# Altium integrated library TI Power Management Linear Regulator Dual Channel LDO.IntLib: 299 symbols (part 7 of 15)
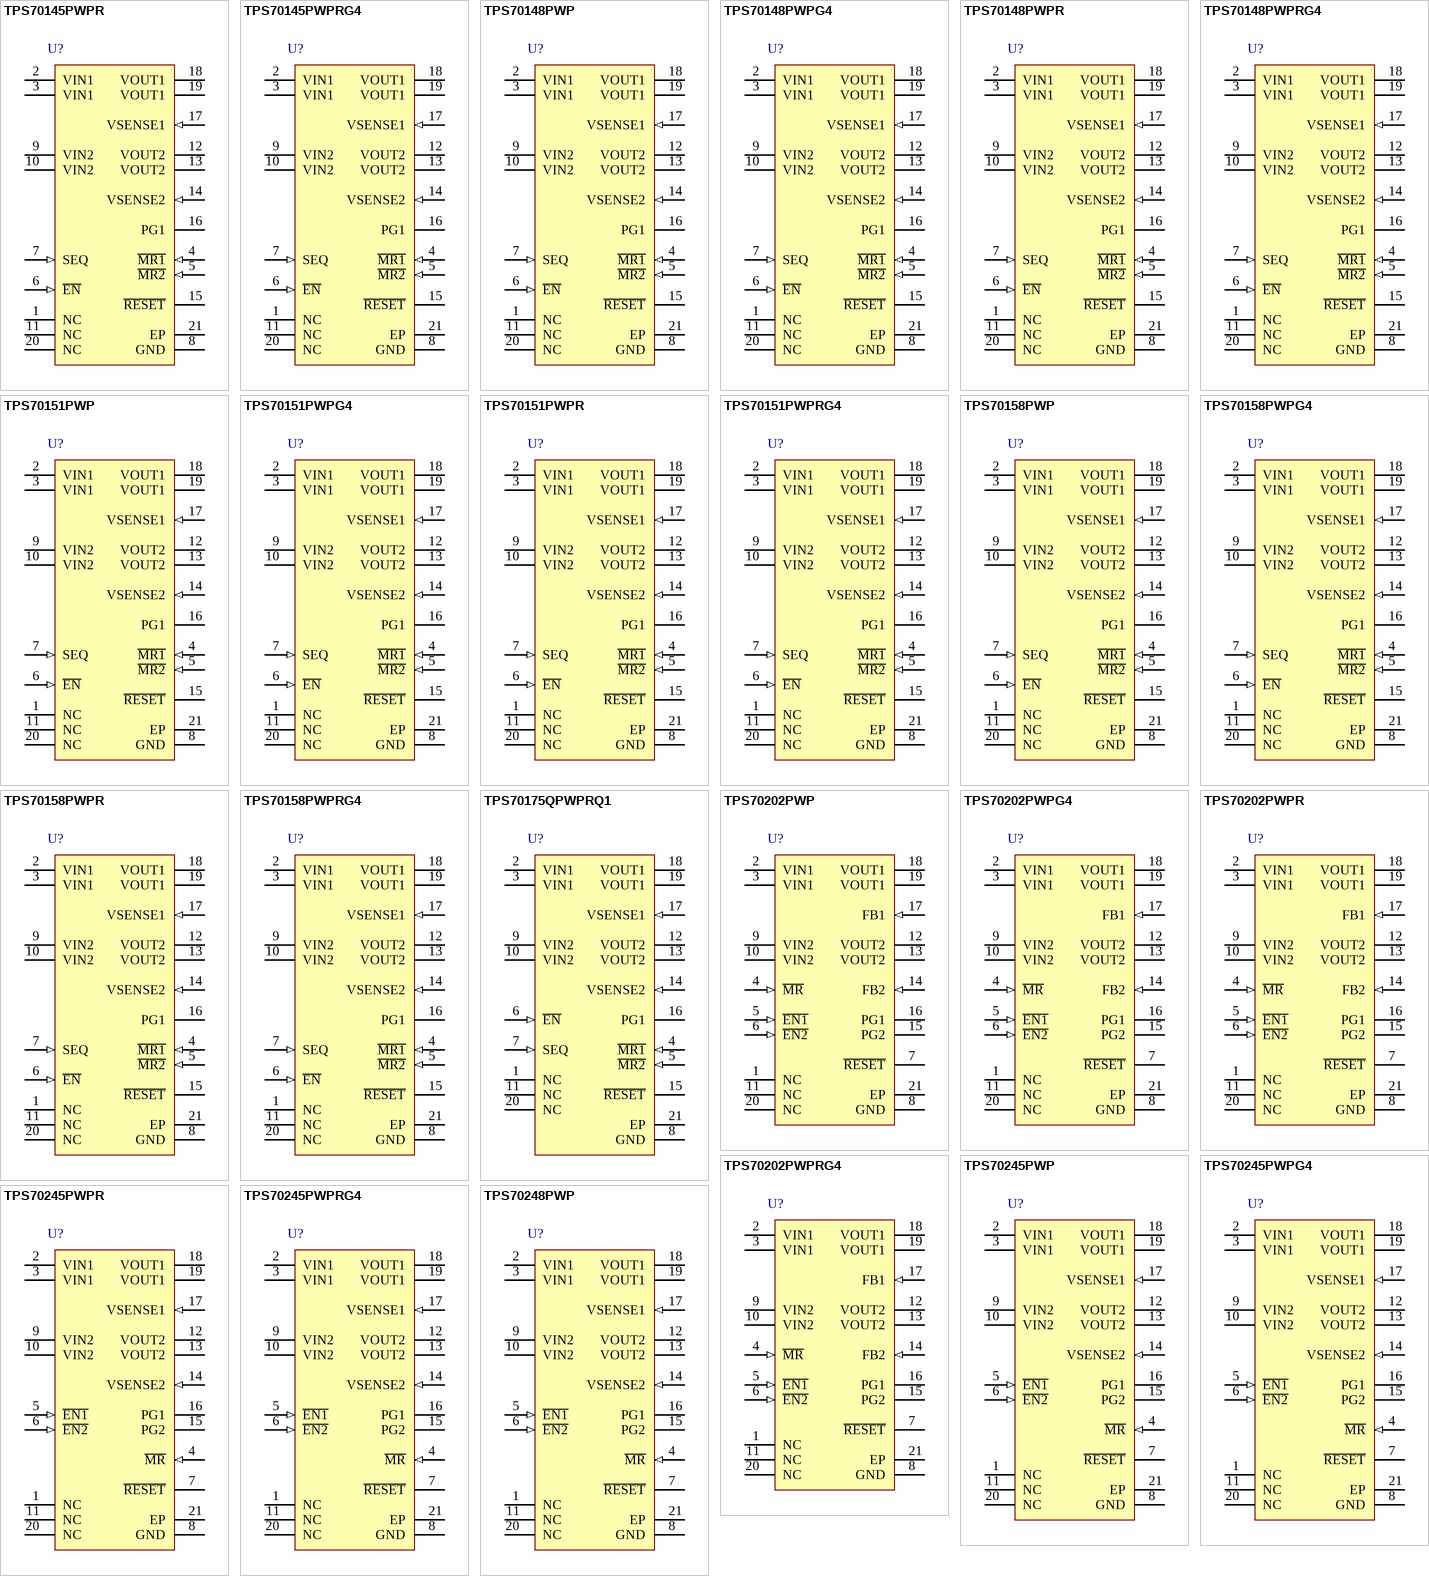
[diagram p17: symbols TPS70145PWPR to TPS70248PWP]

## TPS70245PWPRG4
designator U?
Dual Output LDO, 500 mA, Fixed 3.3, 1.2 V Output, 2.7 to 6 V Input, 20-pin HTSSOP (PWP), -40 to 125 degC, Green (RoHS & no Sb/Br); Manufacturer: Texas Instruments; PartNumber: TPS70245PWPRG4; Iout(Max)(A): 0.5; Iout2(A): 0.2; Iq(Typ)(mA): 0.19; SubFamily: Dual Channel LDO; Vdo(Typ)(mV): 170; Vin(Max)(V): 6; Vin(Min)(V): 2.7; Vout(Max)(V): 3.3; Vout2(Max)(V): 1.2; DatasheetVersion: SLVS286E; PackageVersion: 4073225-4/I; PackageReference: PWP20-3005X2005TP; PackageDescription: 20-Pin Plastic Small Outline, Body 6.50 x 4.40 mm, Pitch 0.65 mm; Supplier 1: Digi-Key; Supplier Part Number 1: TPS70245PWPRG4-ND; Supplier 2: Mouser; Supplier Part Number 2: 595-TPS70245PWPRG4; Eco-Plan: Green (RoHS & no Sb/Br); Fixed Output Options(V): 3.3, 1.2; Vout(Min)(V): 3.3; Vout2(Min)(V): 1.2; Mounting Technology: Surface Mount; Code_JEDEC: MO-153; ComponentLink1Description: Manufacturer URL; ComponentLink1URL: http://www.ti.com/; ComponentLink2Description: Datasheet; ComponentLink2URL: http://www.ti.com/general/docs/lit/getliterature.tsp?genericPartNumber=TPS70245&fileType=pdf; ComponentLink3Description: Package Specification; ComponentLink3URL: http://www.ti.com/lit/ml/mhts001g/mhts001g.pdf
footprint TI-PWP20-3005X2005TP_N (SOP, 20-Leads, Body 6.5x4.4mm, Pitch 0.65mm, Thermal Pad 3.005 x 2.005mm, IPC Medium Density)
footprint TI-PWP20-3005X2005TP_L (SOP, 20-Leads, Body 6.5x4.4mm, Pitch 0.65mm, Thermal Pad 3.005 x 2.005mm, IPC High Density)
footprint TI-PWP20-3005X2005TP_M (SOP, 20-Leads, Body 6.5x4.4mm, Pitch 0.65mm, Thermal Pad 3.005 x 2.005mm, IPC Low Density)
pins: 1 NC "No connection", 2 VIN1 (power) "Input voltage of regulator 1", 3 VIN1 (power) "Input voltage of regulator 1", 4 ~{MR} (in) "Manual reset input, active low, pulled up internally", 5 ~{EN1} (in) "Active low enable for VOUT1", 6 ~{EN2} (in) "Active low enable for VOUT2", 7 ~{RESET} (hiz) "Open drain output, SVS (power-on reset) signal, active low", 8 GND (power) "Ground", 9 VIN2 (power) "Input voltage of regulator 2", 10 VIN2 (power) "Input voltage of regulator 2", 11 NC "No connection", 12 VOUT2 (power) "Output voltage of regulator 2", 13 VOUT2 (power) "Output voltage of regulator 2", 14 VSENSE2 (in) "Regulator 2 output voltage sense", 15 PG2 (hiz) "Open drain output, low when VOUT2 voltage is less than 95% of the nominal regulated voltage", 16 PG1 (hiz) "Open drain output, low when VOUT1 voltage is less than 95% of the nominal regulated voltage", 17 VSENSE1 (in) "Regulator 1 output voltage sense", 18 VOUT1 (power) "Output voltage of regulator 1", 19 VOUT1 (power) "Output voltage of regulator 1", 20 NC "No connection", 21 EP "Thermal pad"

## TPS70248PWP
designator U?
Dual Output LDO, 500 mA, Fixed 3.3, 1.5 V Output, 2.7 to 6 V Input, 20-pin HTSSOP (PWP), -40 to 125 degC, Green (RoHS & no Sb/Br); Manufacturer: Texas Instruments; PartNumber: TPS70248PWP; Iout(Max)(A): 0.5; Iout2(A): 0.2; Iq(Typ)(mA): 0.19; SubFamily: Dual Channel LDO; Vdo(Typ)(mV): 170; Vin(Max)(V): 6; Vin(Min)(V): 2.7; Vout(Max)(V): 3.3; Vout2(Max)(V): 1.5; DatasheetVersion: SLVS286E; PackageVersion: 4073225-4/I; PackageReference: PWP20-3005X2005TP; PackageDescription: 20-Pin Plastic Small Outline, Body 6.50 x 4.40 mm, Pitch 0.65 mm; Supplier 1: Digi-Key; Supplier Part Number 1: 296-8018-5-ND; Supplier 2: Newark; Supplier Part Number 2: 77C0753; Supplier 3: Mouser; Supplier Part Number 3: 595-TPS70248PWP; Eco-Plan: Green (RoHS & no Sb/Br); Fixed Output Options(V): 3.3, 1.5; Vout(Min)(V): 3.3; Vout2(Min)(V): 1.5; Mounting Technology: Surface Mount; Code_JEDEC: MO-153; ComponentLink1Description: Manufacturer URL; ComponentLink1URL: http://www.ti.com/; ComponentLink2Description: Datasheet; ComponentLink2URL: http://www.ti.com/general/docs/lit/getliterature.tsp?genericPartNumber=TPS70248&fileType=pdf; ComponentLink3Description: Package Specification; ComponentLink3URL: http://www.ti.com/lit/ml/mhts001g/mhts001g.pdf
footprint TI-PWP20-3005X2005TP_N (SOP, 20-Leads, Body 6.5x4.4mm, Pitch 0.65mm, Thermal Pad 3.005 x 2.005mm, IPC Medium Density)
footprint TI-PWP20-3005X2005TP_L (SOP, 20-Leads, Body 6.5x4.4mm, Pitch 0.65mm, Thermal Pad 3.005 x 2.005mm, IPC High Density)
footprint TI-PWP20-3005X2005TP_M (SOP, 20-Leads, Body 6.5x4.4mm, Pitch 0.65mm, Thermal Pad 3.005 x 2.005mm, IPC Low Density)
pins: 1 NC "No connection", 2 VIN1 (power) "Input voltage of regulator 1", 3 VIN1 (power) "Input voltage of regulator 1", 4 ~{MR} (in) "Manual reset input, active low, pulled up internally", 5 ~{EN1} (in) "Active low enable for VOUT1", 6 ~{EN2} (in) "Active low enable for VOUT2", 7 ~{RESET} (hiz) "Open drain output, SVS (power-on reset) signal, active low", 8 GND (power) "Ground", 9 VIN2 (power) "Input voltage of regulator 2", 10 VIN2 (power) "Input voltage of regulator 2", 11 NC "No connection", 12 VOUT2 (power) "Output voltage of regulator 2", 13 VOUT2 (power) "Output voltage of regulator 2", 14 VSENSE2 (in) "Regulator 2 output voltage sense", 15 PG2 (hiz) "Open drain output, low when VOUT2 voltage is less than 95% of the nominal regulated voltage", 16 PG1 (hiz) "Open drain output, low when VOUT1 voltage is less than 95% of the nominal regulated voltage", 17 VSENSE1 (in) "Regulator 1 output voltage sense", 18 VOUT1 (power) "Output voltage of regulator 1", 19 VOUT1 (power) "Output voltage of regulator 1", 20 NC "No connection", 21 EP "Thermal pad"

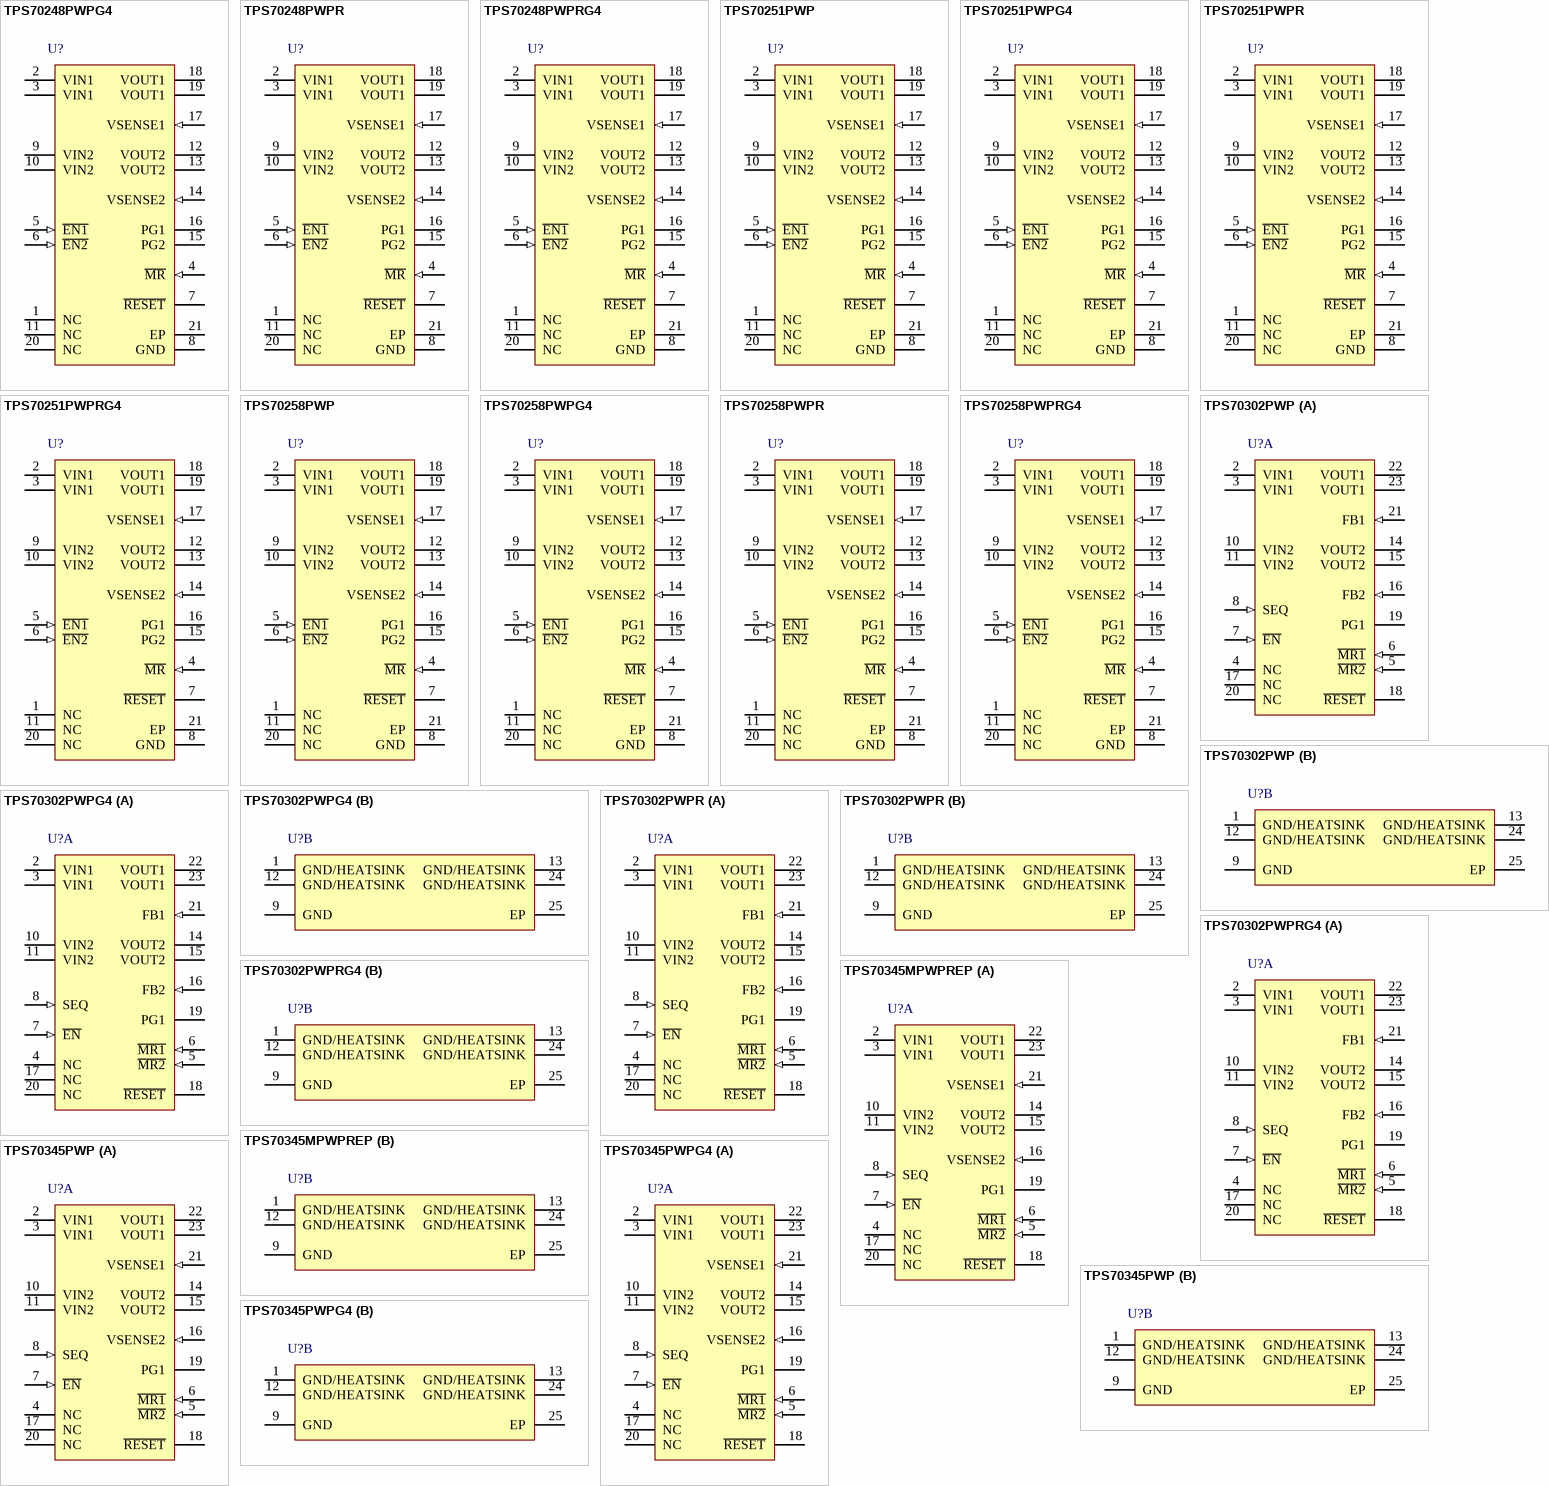
[diagram p5: symbols TPS70248PWPG4 to TPS70345PWPG4]

## TPS70248PWPG4
designator U?
Dual Output LDO, 500 mA, Fixed 3.3, 1.5 V Output, 2.7 to 6 V Input, 20-pin HTSSOP (PWP), -40 to 125 degC, Green (RoHS & no Sb/Br); Manufacturer: Texas Instruments; PartNumber: TPS70248PWPG4; Iout(Max)(A): 0.5; Iout2(A): 0.2; Iq(Typ)(mA): 0.19; SubFamily: Dual Channel LDO; Vdo(Typ)(mV): 170; Vin(Max)(V): 6; Vin(Min)(V): 2.7; Vout(Max)(V): 3.3; Vout2(Max)(V): 1.5; DatasheetVersion: SLVS286E; PackageVersion: 4073225-4/I; PackageReference: PWP20-3005X2005TP; PackageDescription: 20-Pin Plastic Small Outline, Body 6.50 x 4.40 mm, Pitch 0.65 mm; Supplier 1: Digi-Key; Supplier Part Number 1: TPS70248PWPG4-ND; Supplier 2: Mouser; Supplier Part Number 2: 595-TPS70248PWPG4; Eco-Plan: Green (RoHS & no Sb/Br); Fixed Output Options(V): 3.3, 1.5; Vout(Min)(V): 3.3; Vout2(Min)(V): 1.5; Mounting Technology: Surface Mount; Code_JEDEC: MO-153; ComponentLink1Description: Manufacturer URL; ComponentLink1URL: http://www.ti.com/; ComponentLink2Description: Datasheet; ComponentLink2URL: http://www.ti.com/general/docs/lit/getliterature.tsp?genericPartNumber=TPS70248&fileType=pdf; ComponentLink3Description: Package Specification; ComponentLink3URL: http://www.ti.com/lit/ml/mhts001g/mhts001g.pdf
footprint TI-PWP20-3005X2005TP_N (SOP, 20-Leads, Body 6.5x4.4mm, Pitch 0.65mm, Thermal Pad 3.005 x 2.005mm, IPC Medium Density)
footprint TI-PWP20-3005X2005TP_L (SOP, 20-Leads, Body 6.5x4.4mm, Pitch 0.65mm, Thermal Pad 3.005 x 2.005mm, IPC High Density)
footprint TI-PWP20-3005X2005TP_M (SOP, 20-Leads, Body 6.5x4.4mm, Pitch 0.65mm, Thermal Pad 3.005 x 2.005mm, IPC Low Density)
pins: 1 NC "No connection", 2 VIN1 (power) "Input voltage of regulator 1", 3 VIN1 (power) "Input voltage of regulator 1", 4 ~{MR} (in) "Manual reset input, active low, pulled up internally", 5 ~{EN1} (in) "Active low enable for VOUT1", 6 ~{EN2} (in) "Active low enable for VOUT2", 7 ~{RESET} (hiz) "Open drain output, SVS (power-on reset) signal, active low", 8 GND (power) "Ground", 9 VIN2 (power) "Input voltage of regulator 2", 10 VIN2 (power) "Input voltage of regulator 2", 11 NC "No connection", 12 VOUT2 (power) "Output voltage of regulator 2", 13 VOUT2 (power) "Output voltage of regulator 2", 14 VSENSE2 (in) "Regulator 2 output voltage sense", 15 PG2 (hiz) "Open drain output, low when VOUT2 voltage is less than 95% of the nominal regulated voltage", 16 PG1 (hiz) "Open drain output, low when VOUT1 voltage is less than 95% of the nominal regulated voltage", 17 VSENSE1 (in) "Regulator 1 output voltage sense", 18 VOUT1 (power) "Output voltage of regulator 1", 19 VOUT1 (power) "Output voltage of regulator 1", 20 NC "No connection", 21 EP "Thermal pad"

## TPS70248PWPR
designator U?
Dual Output LDO, 500 mA, Fixed 3.3, 1.5 V Output, 2.7 to 6 V Input, 20-pin HTSSOP (PWP), -40 to 125 degC, Green (RoHS & no Sb/Br); Manufacturer: Texas Instruments; PartNumber: TPS70248PWPR; Iout(Max)(A): 0.5; Iout2(A): 0.2; Iq(Typ)(mA): 0.19; SubFamily: Dual Channel LDO; Vdo(Typ)(mV): 170; Vin(Max)(V): 6; Vin(Min)(V): 2.7; Vout(Max)(V): 3.3; Vout2(Max)(V): 1.5; DatasheetVersion: SLVS286E; PackageVersion: 4073225-4/I; PackageReference: PWP20-3005X2005TP; PackageDescription: 20-Pin Plastic Small Outline, Body 6.50 x 4.40 mm, Pitch 0.65 mm; Supplier 1: Digi-Key; Supplier Part Number 1: TPS70248PWPR-ND; Supplier 2: Newark; Supplier Part Number 2: 77C0754; Supplier 3: Mouser; Supplier Part Number 3: 595-TPS70248PWPR; Eco-Plan: Green (RoHS & no Sb/Br); Fixed Output Options(V): 3.3, 1.5; Vout(Min)(V): 3.3; Vout2(Min)(V): 1.5; Mounting Technology: Surface Mount; Code_JEDEC: MO-153; ComponentLink1Description: Manufacturer URL; ComponentLink1URL: http://www.ti.com/; ComponentLink2Description: Datasheet; ComponentLink2URL: http://www.ti.com/general/docs/lit/getliterature.tsp?genericPartNumber=TPS70248&fileType=pdf; ComponentLink3Description: Package Specification; ComponentLink3URL: http://www.ti.com/lit/ml/mhts001g/mhts001g.pdf
footprint TI-PWP20-3005X2005TP_N (SOP, 20-Leads, Body 6.5x4.4mm, Pitch 0.65mm, Thermal Pad 3.005 x 2.005mm, IPC Medium Density)
footprint TI-PWP20-3005X2005TP_L (SOP, 20-Leads, Body 6.5x4.4mm, Pitch 0.65mm, Thermal Pad 3.005 x 2.005mm, IPC High Density)
footprint TI-PWP20-3005X2005TP_M (SOP, 20-Leads, Body 6.5x4.4mm, Pitch 0.65mm, Thermal Pad 3.005 x 2.005mm, IPC Low Density)
pins: 1 NC "No connection", 2 VIN1 (power) "Input voltage of regulator 1", 3 VIN1 (power) "Input voltage of regulator 1", 4 ~{MR} (in) "Manual reset input, active low, pulled up internally", 5 ~{EN1} (in) "Active low enable for VOUT1", 6 ~{EN2} (in) "Active low enable for VOUT2", 7 ~{RESET} (hiz) "Open drain output, SVS (power-on reset) signal, active low", 8 GND (power) "Ground", 9 VIN2 (power) "Input voltage of regulator 2", 10 VIN2 (power) "Input voltage of regulator 2", 11 NC "No connection", 12 VOUT2 (power) "Output voltage of regulator 2", 13 VOUT2 (power) "Output voltage of regulator 2", 14 VSENSE2 (in) "Regulator 2 output voltage sense", 15 PG2 (hiz) "Open drain output, low when VOUT2 voltage is less than 95% of the nominal regulated voltage", 16 PG1 (hiz) "Open drain output, low when VOUT1 voltage is less than 95% of the nominal regulated voltage", 17 VSENSE1 (in) "Regulator 1 output voltage sense", 18 VOUT1 (power) "Output voltage of regulator 1", 19 VOUT1 (power) "Output voltage of regulator 1", 20 NC "No connection", 21 EP "Thermal pad"

## TPS70248PWPRG4
designator U?
Dual Output LDO, 500 mA, Fixed 3.3, 1.5 V Output, 2.7 to 6 V Input, 20-pin HTSSOP (PWP), -40 to 125 degC, Green (RoHS & no Sb/Br); Manufacturer: Texas Instruments; PartNumber: TPS70248PWPRG4; Iout(Max)(A): 0.5; Iout2(A): 0.2; Iq(Typ)(mA): 0.19; SubFamily: Dual Channel LDO; Vdo(Typ)(mV): 170; Vin(Max)(V): 6; Vin(Min)(V): 2.7; Vout(Max)(V): 3.3; Vout2(Max)(V): 1.5; DatasheetVersion: SLVS286E; PackageVersion: 4073225-4/I; PackageReference: PWP20-3005X2005TP; PackageDescription: 20-Pin Plastic Small Outline, Body 6.50 x 4.40 mm, Pitch 0.65 mm; Supplier 1: Digi-Key; Supplier Part Number 1: TPS70248PWPRG4-ND; Supplier 2: Mouser; Supplier Part Number 2: 595-TPS70248PWPRG4; Eco-Plan: Green (RoHS & no Sb/Br); Fixed Output Options(V): 3.3, 1.5; Vout(Min)(V): 3.3; Vout2(Min)(V): 1.5; Mounting Technology: Surface Mount; Code_JEDEC: MO-153; ComponentLink1Description: Manufacturer URL; ComponentLink1URL: http://www.ti.com/; ComponentLink2Description: Datasheet; ComponentLink2URL: http://www.ti.com/general/docs/lit/getliterature.tsp?genericPartNumber=TPS70248&fileType=pdf; ComponentLink3Description: Package Specification; ComponentLink3URL: http://www.ti.com/lit/ml/mhts001g/mhts001g.pdf
footprint TI-PWP20-3005X2005TP_N (SOP, 20-Leads, Body 6.5x4.4mm, Pitch 0.65mm, Thermal Pad 3.005 x 2.005mm, IPC Medium Density)
footprint TI-PWP20-3005X2005TP_L (SOP, 20-Leads, Body 6.5x4.4mm, Pitch 0.65mm, Thermal Pad 3.005 x 2.005mm, IPC High Density)
footprint TI-PWP20-3005X2005TP_M (SOP, 20-Leads, Body 6.5x4.4mm, Pitch 0.65mm, Thermal Pad 3.005 x 2.005mm, IPC Low Density)
pins: 1 NC "No connection", 2 VIN1 (power) "Input voltage of regulator 1", 3 VIN1 (power) "Input voltage of regulator 1", 4 ~{MR} (in) "Manual reset input, active low, pulled up internally", 5 ~{EN1} (in) "Active low enable for VOUT1", 6 ~{EN2} (in) "Active low enable for VOUT2", 7 ~{RESET} (hiz) "Open drain output, SVS (power-on reset) signal, active low", 8 GND (power) "Ground", 9 VIN2 (power) "Input voltage of regulator 2", 10 VIN2 (power) "Input voltage of regulator 2", 11 NC "No connection", 12 VOUT2 (power) "Output voltage of regulator 2", 13 VOUT2 (power) "Output voltage of regulator 2", 14 VSENSE2 (in) "Regulator 2 output voltage sense", 15 PG2 (hiz) "Open drain output, low when VOUT2 voltage is less than 95% of the nominal regulated voltage", 16 PG1 (hiz) "Open drain output, low when VOUT1 voltage is less than 95% of the nominal regulated voltage", 17 VSENSE1 (in) "Regulator 1 output voltage sense", 18 VOUT1 (power) "Output voltage of regulator 1", 19 VOUT1 (power) "Output voltage of regulator 1", 20 NC "No connection", 21 EP "Thermal pad"

## TPS70251PWP
designator U?
Dual Output LDO, 500 mA, Fixed 3.3, 1.8 V Output, 2.7 to 6 V Input, 20-pin HTSSOP (PWP), -40 to 125 degC, Green (RoHS & no Sb/Br); Manufacturer: Texas Instruments; PartNumber: TPS70251PWP; Iout(Max)(A): 0.5; Iout2(A): 0.2; Iq(Typ)(mA): 0.19; SubFamily: Dual Channel LDO; Vdo(Typ)(mV): 170; Vin(Max)(V): 6; Vin(Min)(V): 2.7; Vout(Max)(V): 3.3; Vout2(Max)(V): 1.8; DatasheetVersion: SLVS286E; PackageVersion: 4073225-4/I; PackageReference: PWP20-3005X2005TP; PackageDescription: 20-Pin Plastic Small Outline, Body 6.50 x 4.40 mm, Pitch 0.65 mm; Supplier 1: Digi-Key; Supplier Part Number 1: 296-8019-5-ND; Supplier 2: Farnell; Supplier Part Number 2: 1461065; Supplier 3: Newark; Supplier Part Number 3: 77C0755; Supplier 4: Mouser; Supplier Part Number 4: 595-TPS70251PWP; Eco-Plan: Green (RoHS & no Sb/Br); Fixed Output Options(V): 3.3, 1.8; Vout(Min)(V): 3.3; Vout2(Min)(V): 1.8; Mounting Technology: Surface Mount; Code_JEDEC: MO-153; ComponentLink1Description: Manufacturer URL; ComponentLink1URL: http://www.ti.com/; ComponentLink2Description: Datasheet; ComponentLink2URL: http://www.ti.com/general/docs/lit/getliterature.tsp?genericPartNumber=TPS70251&fileType=pdf; ComponentLink3Description: Package Specification; ComponentLink3URL: http://www.ti.com/lit/ml/mhts001g/mhts001g.pdf
footprint TI-PWP20-3005X2005TP_N (SOP, 20-Leads, Body 6.5x4.4mm, Pitch 0.65mm, Thermal Pad 3.005 x 2.005mm, IPC Medium Density)
footprint TI-PWP20-3005X2005TP_L (SOP, 20-Leads, Body 6.5x4.4mm, Pitch 0.65mm, Thermal Pad 3.005 x 2.005mm, IPC High Density)
footprint TI-PWP20-3005X2005TP_M (SOP, 20-Leads, Body 6.5x4.4mm, Pitch 0.65mm, Thermal Pad 3.005 x 2.005mm, IPC Low Density)
pins: 1 NC "No connection", 2 VIN1 (power) "Input voltage of regulator 1", 3 VIN1 (power) "Input voltage of regulator 1", 4 ~{MR} (in) "Manual reset input, active low, pulled up internally", 5 ~{EN1} (in) "Active low enable for VOUT1", 6 ~{EN2} (in) "Active low enable for VOUT2", 7 ~{RESET} (hiz) "Open drain output, SVS (power-on reset) signal, active low", 8 GND (power) "Ground", 9 VIN2 (power) "Input voltage of regulator 2", 10 VIN2 (power) "Input voltage of regulator 2", 11 NC "No connection", 12 VOUT2 (power) "Output voltage of regulator 2", 13 VOUT2 (power) "Output voltage of regulator 2", 14 VSENSE2 (in) "Regulator 2 output voltage sense", 15 PG2 (hiz) "Open drain output, low when VOUT2 voltage is less than 95% of the nominal regulated voltage", 16 PG1 (hiz) "Open drain output, low when VOUT1 voltage is less than 95% of the nominal regulated voltage", 17 VSENSE1 (in) "Regulator 1 output voltage sense", 18 VOUT1 (power) "Output voltage of regulator 1", 19 VOUT1 (power) "Output voltage of regulator 1", 20 NC "No connection", 21 EP "Thermal pad"

## TPS70251PWPG4
designator U?
Dual Output LDO, 500 mA, Fixed 3.3, 1.8 V Output, 2.7 to 6 V Input, 20-pin HTSSOP (PWP), -40 to 125 degC, Green (RoHS & no Sb/Br); Manufacturer: Texas Instruments; PartNumber: TPS70251PWPG4; Iout(Max)(A): 0.5; Iout2(A): 0.2; Iq(Typ)(mA): 0.19; SubFamily: Dual Channel LDO; Vdo(Typ)(mV): 170; Vin(Max)(V): 6; Vin(Min)(V): 2.7; Vout(Max)(V): 3.3; Vout2(Max)(V): 1.8; DatasheetVersion: SLVS286E; PackageVersion: 4073225-4/I; PackageReference: PWP20-3005X2005TP; PackageDescription: 20-Pin Plastic Small Outline, Body 6.50 x 4.40 mm, Pitch 0.65 mm; Supplier 1: Digi-Key; Supplier Part Number 1: TPS70251PWPG4-ND; Supplier 2: Newark; Supplier Part Number 2: 10M0652; Supplier 3: Mouser; Supplier Part Number 3: 595-TPS70251PWPG4; Eco-Plan: Green (RoHS & no Sb/Br); Fixed Output Options(V): 3.3, 1.8; Vout(Min)(V): 3.3; Vout2(Min)(V): 1.8; Mounting Technology: Surface Mount; Code_JEDEC: MO-153; ComponentLink1Description: Manufacturer URL; ComponentLink1URL: http://www.ti.com/; ComponentLink2Description: Datasheet; ComponentLink2URL: http://www.ti.com/general/docs/lit/getliterature.tsp?genericPartNumber=TPS70251&fileType=pdf; ComponentLink3Description: Package Specification; ComponentLink3URL: http://www.ti.com/lit/ml/mhts001g/mhts001g.pdf
footprint TI-PWP20-3005X2005TP_N (SOP, 20-Leads, Body 6.5x4.4mm, Pitch 0.65mm, Thermal Pad 3.005 x 2.005mm, IPC Medium Density)
footprint TI-PWP20-3005X2005TP_L (SOP, 20-Leads, Body 6.5x4.4mm, Pitch 0.65mm, Thermal Pad 3.005 x 2.005mm, IPC High Density)
footprint TI-PWP20-3005X2005TP_M (SOP, 20-Leads, Body 6.5x4.4mm, Pitch 0.65mm, Thermal Pad 3.005 x 2.005mm, IPC Low Density)
pins: 1 NC "No connection", 2 VIN1 (power) "Input voltage of regulator 1", 3 VIN1 (power) "Input voltage of regulator 1", 4 ~{MR} (in) "Manual reset input, active low, pulled up internally", 5 ~{EN1} (in) "Active low enable for VOUT1", 6 ~{EN2} (in) "Active low enable for VOUT2", 7 ~{RESET} (hiz) "Open drain output, SVS (power-on reset) signal, active low", 8 GND (power) "Ground", 9 VIN2 (power) "Input voltage of regulator 2", 10 VIN2 (power) "Input voltage of regulator 2", 11 NC "No connection", 12 VOUT2 (power) "Output voltage of regulator 2", 13 VOUT2 (power) "Output voltage of regulator 2", 14 VSENSE2 (in) "Regulator 2 output voltage sense", 15 PG2 (hiz) "Open drain output, low when VOUT2 voltage is less than 95% of the nominal regulated voltage", 16 PG1 (hiz) "Open drain output, low when VOUT1 voltage is less than 95% of the nominal regulated voltage", 17 VSENSE1 (in) "Regulator 1 output voltage sense", 18 VOUT1 (power) "Output voltage of regulator 1", 19 VOUT1 (power) "Output voltage of regulator 1", 20 NC "No connection", 21 EP "Thermal pad"

## TPS70251PWPR
designator U?
Dual Output LDO, 500 mA, Fixed 3.3, 1.8 V Output, 2.7 to 6 V Input, 20-pin HTSSOP (PWP), -40 to 125 degC, Green (RoHS & no Sb/Br); Manufacturer: Texas Instruments; PartNumber: TPS70251PWPR; Iout(Max)(A): 0.5; Iout2(A): 0.2; Iq(Typ)(mA): 0.19; SubFamily: Dual Channel LDO; Vdo(Typ)(mV): 170; Vin(Max)(V): 6; Vin(Min)(V): 2.7; Vout(Max)(V): 3.3; Vout2(Max)(V): 1.8; DatasheetVersion: SLVS286E; PackageVersion: 4073225-4/I; PackageReference: PWP20-3005X2005TP; PackageDescription: 20-Pin Plastic Small Outline, Body 6.50 x 4.40 mm, Pitch 0.65 mm; Supplier 1: Digi-Key; Supplier Part Number 1: TPS70251PWPR-ND; Supplier 2: Mouser; Supplier Part Number 2: 595-TPS70251PWPR; Eco-Plan: Green (RoHS & no Sb/Br); Fixed Output Options(V): 3.3, 1.8; Vout(Min)(V): 3.3; Vout2(Min)(V): 1.8; Mounting Technology: Surface Mount; Code_JEDEC: MO-153; ComponentLink1Description: Manufacturer URL; ComponentLink1URL: http://www.ti.com/; ComponentLink2Description: Datasheet; ComponentLink2URL: http://www.ti.com/general/docs/lit/getliterature.tsp?genericPartNumber=TPS70251&fileType=pdf; ComponentLink3Description: Package Specification; ComponentLink3URL: http://www.ti.com/lit/ml/mhts001g/mhts001g.pdf
footprint TI-PWP20-3005X2005TP_N (SOP, 20-Leads, Body 6.5x4.4mm, Pitch 0.65mm, Thermal Pad 3.005 x 2.005mm, IPC Medium Density)
footprint TI-PWP20-3005X2005TP_L (SOP, 20-Leads, Body 6.5x4.4mm, Pitch 0.65mm, Thermal Pad 3.005 x 2.005mm, IPC High Density)
footprint TI-PWP20-3005X2005TP_M (SOP, 20-Leads, Body 6.5x4.4mm, Pitch 0.65mm, Thermal Pad 3.005 x 2.005mm, IPC Low Density)
pins: 1 NC "No connection", 2 VIN1 (power) "Input voltage of regulator 1", 3 VIN1 (power) "Input voltage of regulator 1", 4 ~{MR} (in) "Manual reset input, active low, pulled up internally", 5 ~{EN1} (in) "Active low enable for VOUT1", 6 ~{EN2} (in) "Active low enable for VOUT2", 7 ~{RESET} (hiz) "Open drain output, SVS (power-on reset) signal, active low", 8 GND (power) "Ground", 9 VIN2 (power) "Input voltage of regulator 2", 10 VIN2 (power) "Input voltage of regulator 2", 11 NC "No connection", 12 VOUT2 (power) "Output voltage of regulator 2", 13 VOUT2 (power) "Output voltage of regulator 2", 14 VSENSE2 (in) "Regulator 2 output voltage sense", 15 PG2 (hiz) "Open drain output, low when VOUT2 voltage is less than 95% of the nominal regulated voltage", 16 PG1 (hiz) "Open drain output, low when VOUT1 voltage is less than 95% of the nominal regulated voltage", 17 VSENSE1 (in) "Regulator 1 output voltage sense", 18 VOUT1 (power) "Output voltage of regulator 1", 19 VOUT1 (power) "Output voltage of regulator 1", 20 NC "No connection", 21 EP "Thermal pad"

## TPS70251PWPRG4
designator U?
Dual Output LDO, 500 mA, Fixed 3.3, 1.8 V Output, 2.7 to 6 V Input, 20-pin HTSSOP (PWP), -40 to 125 degC, Green (RoHS & no Sb/Br); Manufacturer: Texas Instruments; PartNumber: TPS70251PWPRG4; Iout(Max)(A): 0.5; Iout2(A): 0.2; Iq(Typ)(mA): 0.19; SubFamily: Dual Channel LDO; Vdo(Typ)(mV): 170; Vin(Max)(V): 6; Vin(Min)(V): 2.7; Vout(Max)(V): 3.3; Vout2(Max)(V): 1.8; DatasheetVersion: SLVS286E; PackageVersion: 4073225-4/I; PackageReference: PWP20-3005X2005TP; PackageDescription: 20-Pin Plastic Small Outline, Body 6.50 x 4.40 mm, Pitch 0.65 mm; Supplier 1: Digi-Key; Supplier Part Number 1: TPS70251PWPRG4-ND; Supplier 2: Mouser; Supplier Part Number 2: 595-TPS70251PWPRG4; Eco-Plan: Green (RoHS & no Sb/Br); Fixed Output Options(V): 3.3, 1.8; Vout(Min)(V): 3.3; Vout2(Min)(V): 1.8; Mounting Technology: Surface Mount; Code_JEDEC: MO-153; ComponentLink1Description: Manufacturer URL; ComponentLink1URL: http://www.ti.com/; ComponentLink2Description: Datasheet; ComponentLink2URL: http://www.ti.com/general/docs/lit/getliterature.tsp?genericPartNumber=TPS70251&fileType=pdf; ComponentLink3Description: Package Specification; ComponentLink3URL: http://www.ti.com/lit/ml/mhts001g/mhts001g.pdf
footprint TI-PWP20-3005X2005TP_N (SOP, 20-Leads, Body 6.5x4.4mm, Pitch 0.65mm, Thermal Pad 3.005 x 2.005mm, IPC Medium Density)
footprint TI-PWP20-3005X2005TP_L (SOP, 20-Leads, Body 6.5x4.4mm, Pitch 0.65mm, Thermal Pad 3.005 x 2.005mm, IPC High Density)
footprint TI-PWP20-3005X2005TP_M (SOP, 20-Leads, Body 6.5x4.4mm, Pitch 0.65mm, Thermal Pad 3.005 x 2.005mm, IPC Low Density)
pins: 1 NC "No connection", 2 VIN1 (power) "Input voltage of regulator 1", 3 VIN1 (power) "Input voltage of regulator 1", 4 ~{MR} (in) "Manual reset input, active low, pulled up internally", 5 ~{EN1} (in) "Active low enable for VOUT1", 6 ~{EN2} (in) "Active low enable for VOUT2", 7 ~{RESET} (hiz) "Open drain output, SVS (power-on reset) signal, active low", 8 GND (power) "Ground", 9 VIN2 (power) "Input voltage of regulator 2", 10 VIN2 (power) "Input voltage of regulator 2", 11 NC "No connection", 12 VOUT2 (power) "Output voltage of regulator 2", 13 VOUT2 (power) "Output voltage of regulator 2", 14 VSENSE2 (in) "Regulator 2 output voltage sense", 15 PG2 (hiz) "Open drain output, low when VOUT2 voltage is less than 95% of the nominal regulated voltage", 16 PG1 (hiz) "Open drain output, low when VOUT1 voltage is less than 95% of the nominal regulated voltage", 17 VSENSE1 (in) "Regulator 1 output voltage sense", 18 VOUT1 (power) "Output voltage of regulator 1", 19 VOUT1 (power) "Output voltage of regulator 1", 20 NC "No connection", 21 EP "Thermal pad"

## TPS70258PWP
designator U?
Dual Output LDO, 500 mA, Fixed 3.3, 2.5 V Output, 2.7 to 6 V Input, 20-pin HTSSOP (PWP), -40 to 125 degC, Green (RoHS & no Sb/Br); Manufacturer: Texas Instruments; PartNumber: TPS70258PWP; Iout(Max)(A): 0.5; Iout2(A): 0.2; Iq(Typ)(mA): 0.19; SubFamily: Dual Channel LDO; Vdo(Typ)(mV): 170; Vin(Max)(V): 6; Vin(Min)(V): 2.7; Vout(Max)(V): 3.3; Vout2(Max)(V): 2.5; DatasheetVersion: SLVS286E; PackageVersion: 4073225-4/I; PackageReference: PWP20-3005X2005TP; PackageDescription: 20-Pin Plastic Small Outline, Body 6.50 x 4.40 mm, Pitch 0.65 mm; Supplier 1: Digi-Key; Supplier Part Number 1: 296-8020-5-ND; Supplier 2: Newark; Supplier Part Number 2: 77C0757; Supplier 3: Mouser; Supplier Part Number 3: 595-TPS70258PWP; Eco-Plan: Green (RoHS & no Sb/Br); Fixed Output Options(V): 3.3, 2.5; Vout(Min)(V): 3.3; Vout2(Min)(V): 2.5; Mounting Technology: Surface Mount; Code_JEDEC: MO-153; ComponentLink1Description: Manufacturer URL; ComponentLink1URL: http://www.ti.com/; ComponentLink2Description: Datasheet; ComponentLink2URL: http://www.ti.com/general/docs/lit/getliterature.tsp?genericPartNumber=TPS70258&fileType=pdf; ComponentLink3Description: Package Specification; ComponentLink3URL: http://www.ti.com/lit/ml/mhts001g/mhts001g.pdf
footprint TI-PWP20-3005X2005TP_N (SOP, 20-Leads, Body 6.5x4.4mm, Pitch 0.65mm, Thermal Pad 3.005 x 2.005mm, IPC Medium Density)
footprint TI-PWP20-3005X2005TP_L (SOP, 20-Leads, Body 6.5x4.4mm, Pitch 0.65mm, Thermal Pad 3.005 x 2.005mm, IPC High Density)
footprint TI-PWP20-3005X2005TP_M (SOP, 20-Leads, Body 6.5x4.4mm, Pitch 0.65mm, Thermal Pad 3.005 x 2.005mm, IPC Low Density)
pins: 1 NC "No connection", 2 VIN1 (power) "Input voltage of regulator 1", 3 VIN1 (power) "Input voltage of regulator 1", 4 ~{MR} (in) "Manual reset input, active low, pulled up internally", 5 ~{EN1} (in) "Active low enable for VOUT1", 6 ~{EN2} (in) "Active low enable for VOUT2", 7 ~{RESET} (hiz) "Open drain output, SVS (power-on reset) signal, active low", 8 GND (power) "Ground", 9 VIN2 (power) "Input voltage of regulator 2", 10 VIN2 (power) "Input voltage of regulator 2", 11 NC "No connection", 12 VOUT2 (power) "Output voltage of regulator 2", 13 VOUT2 (power) "Output voltage of regulator 2", 14 VSENSE2 (in) "Regulator 2 output voltage sense", 15 PG2 (hiz) "Open drain output, low when VOUT2 voltage is less than 95% of the nominal regulated voltage", 16 PG1 (hiz) "Open drain output, low when VOUT1 voltage is less than 95% of the nominal regulated voltage", 17 VSENSE1 (in) "Regulator 1 output voltage sense", 18 VOUT1 (power) "Output voltage of regulator 1", 19 VOUT1 (power) "Output voltage of regulator 1", 20 NC "No connection", 21 EP "Thermal pad"

## TPS70258PWPG4
designator U?
Dual Output LDO, 500 mA, Fixed 3.3, 2.5 V Output, 2.7 to 6 V Input, 20-pin HTSSOP (PWP), -40 to 125 degC, Green (RoHS & no Sb/Br); Manufacturer: Texas Instruments; PartNumber: TPS70258PWPG4; Iout(Max)(A): 0.5; Iout2(A): 0.2; Iq(Typ)(mA): 0.19; SubFamily: Dual Channel LDO; Vdo(Typ)(mV): 170; Vin(Max)(V): 6; Vin(Min)(V): 2.7; Vout(Max)(V): 3.3; Vout2(Max)(V): 2.5; DatasheetVersion: SLVS286E; PackageVersion: 4073225-4/I; PackageReference: PWP20-3005X2005TP; PackageDescription: 20-Pin Plastic Small Outline, Body 6.50 x 4.40 mm, Pitch 0.65 mm; Supplier 1: Digi-Key; Supplier Part Number 1: TPS70258PWPG4-ND; Supplier 2: Newark; Supplier Part Number 2: 70K5764; Supplier 3: Mouser; Supplier Part Number 3: 595-TPS70258PWPG4; Eco-Plan: Green (RoHS & no Sb/Br); Fixed Output Options(V): 3.3, 2.5; Vout(Min)(V): 3.3; Vout2(Min)(V): 2.5; Mounting Technology: Surface Mount; Code_JEDEC: MO-153; ComponentLink1Description: Manufacturer URL; ComponentLink1URL: http://www.ti.com/; ComponentLink2Description: Datasheet; ComponentLink2URL: http://www.ti.com/general/docs/lit/getliterature.tsp?genericPartNumber=TPS70258&fileType=pdf; ComponentLink3Description: Package Specification; ComponentLink3URL: http://www.ti.com/lit/ml/mhts001g/mhts001g.pdf
footprint TI-PWP20-3005X2005TP_N (SOP, 20-Leads, Body 6.5x4.4mm, Pitch 0.65mm, Thermal Pad 3.005 x 2.005mm, IPC Medium Density)
footprint TI-PWP20-3005X2005TP_L (SOP, 20-Leads, Body 6.5x4.4mm, Pitch 0.65mm, Thermal Pad 3.005 x 2.005mm, IPC High Density)
footprint TI-PWP20-3005X2005TP_M (SOP, 20-Leads, Body 6.5x4.4mm, Pitch 0.65mm, Thermal Pad 3.005 x 2.005mm, IPC Low Density)
pins: 1 NC "No connection", 2 VIN1 (power) "Input voltage of regulator 1", 3 VIN1 (power) "Input voltage of regulator 1", 4 ~{MR} (in) "Manual reset input, active low, pulled up internally", 5 ~{EN1} (in) "Active low enable for VOUT1", 6 ~{EN2} (in) "Active low enable for VOUT2", 7 ~{RESET} (hiz) "Open drain output, SVS (power-on reset) signal, active low", 8 GND (power) "Ground", 9 VIN2 (power) "Input voltage of regulator 2", 10 VIN2 (power) "Input voltage of regulator 2", 11 NC "No connection", 12 VOUT2 (power) "Output voltage of regulator 2", 13 VOUT2 (power) "Output voltage of regulator 2", 14 VSENSE2 (in) "Regulator 2 output voltage sense", 15 PG2 (hiz) "Open drain output, low when VOUT2 voltage is less than 95% of the nominal regulated voltage", 16 PG1 (hiz) "Open drain output, low when VOUT1 voltage is less than 95% of the nominal regulated voltage", 17 VSENSE1 (in) "Regulator 1 output voltage sense", 18 VOUT1 (power) "Output voltage of regulator 1", 19 VOUT1 (power) "Output voltage of regulator 1", 20 NC "No connection", 21 EP "Thermal pad"

## TPS70258PWPR
designator U?
Dual Output LDO, 500 mA, Fixed 3.3, 2.5 V Output, 2.7 to 6 V Input, 20-pin HTSSOP (PWP), -40 to 125 degC, Green (RoHS & no Sb/Br); Manufacturer: Texas Instruments; PartNumber: TPS70258PWPR; Iout(Max)(A): 0.5; Iout2(A): 0.2; Iq(Typ)(mA): 0.19; SubFamily: Dual Channel LDO; Vdo(Typ)(mV): 170; Vin(Max)(V): 6; Vin(Min)(V): 2.7; Vout(Max)(V): 3.3; Vout2(Max)(V): 2.5; DatasheetVersion: SLVS286E; PackageVersion: 4073225-4/I; PackageReference: PWP20-3005X2005TP; PackageDescription: 20-Pin Plastic Small Outline, Body 6.50 x 4.40 mm, Pitch 0.65 mm; Supplier 1: Digi-Key; Supplier Part Number 1: TPS70258PWPR-ND; Supplier 2: Mouser; Supplier Part Number 2: 595-TPS70258PWPR; Eco-Plan: Green (RoHS & no Sb/Br); Fixed Output Options(V): 3.3, 2.5; Vout(Min)(V): 3.3; Vout2(Min)(V): 2.5; Mounting Technology: Surface Mount; Code_JEDEC: MO-153; ComponentLink1Description: Manufacturer URL; ComponentLink1URL: http://www.ti.com/; ComponentLink2Description: Datasheet; ComponentLink2URL: http://www.ti.com/general/docs/lit/getliterature.tsp?genericPartNumber=TPS70258&fileType=pdf; ComponentLink3Description: Package Specification; ComponentLink3URL: http://www.ti.com/lit/ml/mhts001g/mhts001g.pdf
footprint TI-PWP20-3005X2005TP_N (SOP, 20-Leads, Body 6.5x4.4mm, Pitch 0.65mm, Thermal Pad 3.005 x 2.005mm, IPC Medium Density)
footprint TI-PWP20-3005X2005TP_L (SOP, 20-Leads, Body 6.5x4.4mm, Pitch 0.65mm, Thermal Pad 3.005 x 2.005mm, IPC High Density)
footprint TI-PWP20-3005X2005TP_M (SOP, 20-Leads, Body 6.5x4.4mm, Pitch 0.65mm, Thermal Pad 3.005 x 2.005mm, IPC Low Density)
pins: 1 NC "No connection", 2 VIN1 (power) "Input voltage of regulator 1", 3 VIN1 (power) "Input voltage of regulator 1", 4 ~{MR} (in) "Manual reset input, active low, pulled up internally", 5 ~{EN1} (in) "Active low enable for VOUT1", 6 ~{EN2} (in) "Active low enable for VOUT2", 7 ~{RESET} (hiz) "Open drain output, SVS (power-on reset) signal, active low", 8 GND (power) "Ground", 9 VIN2 (power) "Input voltage of regulator 2", 10 VIN2 (power) "Input voltage of regulator 2", 11 NC "No connection", 12 VOUT2 (power) "Output voltage of regulator 2", 13 VOUT2 (power) "Output voltage of regulator 2", 14 VSENSE2 (in) "Regulator 2 output voltage sense", 15 PG2 (hiz) "Open drain output, low when VOUT2 voltage is less than 95% of the nominal regulated voltage", 16 PG1 (hiz) "Open drain output, low when VOUT1 voltage is less than 95% of the nominal regulated voltage", 17 VSENSE1 (in) "Regulator 1 output voltage sense", 18 VOUT1 (power) "Output voltage of regulator 1", 19 VOUT1 (power) "Output voltage of regulator 1", 20 NC "No connection", 21 EP "Thermal pad"

## TPS70258PWPRG4
designator U?
Dual Output LDO, 500 mA, Fixed 3.3, 2.5 V Output, 2.7 to 6 V Input, 20-pin HTSSOP (PWP), -40 to 125 degC, Green (RoHS & no Sb/Br); Manufacturer: Texas Instruments; PartNumber: TPS70258PWPRG4; Iout(Max)(A): 0.5; Iout2(A): 0.2; Iq(Typ)(mA): 0.19; SubFamily: Dual Channel LDO; Vdo(Typ)(mV): 170; Vin(Max)(V): 6; Vin(Min)(V): 2.7; Vout(Max)(V): 3.3; Vout2(Max)(V): 2.5; DatasheetVersion: SLVS286E; PackageVersion: 4073225-4/I; PackageReference: PWP20-3005X2005TP; PackageDescription: 20-Pin Plastic Small Outline, Body 6.50 x 4.40 mm, Pitch 0.65 mm; Supplier 1: Digi-Key; Supplier Part Number 1: TPS70258PWPRG4-ND; Supplier 2: Mouser; Supplier Part Number 2: 595-TPS70258PWPRG4; Eco-Plan: Green (RoHS & no Sb/Br); Fixed Output Options(V): 3.3, 2.5; Vout(Min)(V): 3.3; Vout2(Min)(V): 2.5; Mounting Technology: Surface Mount; Code_JEDEC: MO-153; ComponentLink1Description: Manufacturer URL; ComponentLink1URL: http://www.ti.com/; ComponentLink2Description: Datasheet; ComponentLink2URL: http://www.ti.com/general/docs/lit/getliterature.tsp?genericPartNumber=TPS70258&fileType=pdf; ComponentLink3Description: Package Specification; ComponentLink3URL: http://www.ti.com/lit/ml/mhts001g/mhts001g.pdf
footprint TI-PWP20-3005X2005TP_N (SOP, 20-Leads, Body 6.5x4.4mm, Pitch 0.65mm, Thermal Pad 3.005 x 2.005mm, IPC Medium Density)
footprint TI-PWP20-3005X2005TP_L (SOP, 20-Leads, Body 6.5x4.4mm, Pitch 0.65mm, Thermal Pad 3.005 x 2.005mm, IPC High Density)
footprint TI-PWP20-3005X2005TP_M (SOP, 20-Leads, Body 6.5x4.4mm, Pitch 0.65mm, Thermal Pad 3.005 x 2.005mm, IPC Low Density)
pins: 1 NC "No connection", 2 VIN1 (power) "Input voltage of regulator 1", 3 VIN1 (power) "Input voltage of regulator 1", 4 ~{MR} (in) "Manual reset input, active low, pulled up internally", 5 ~{EN1} (in) "Active low enable for VOUT1", 6 ~{EN2} (in) "Active low enable for VOUT2", 7 ~{RESET} (hiz) "Open drain output, SVS (power-on reset) signal, active low", 8 GND (power) "Ground", 9 VIN2 (power) "Input voltage of regulator 2", 10 VIN2 (power) "Input voltage of regulator 2", 11 NC "No connection", 12 VOUT2 (power) "Output voltage of regulator 2", 13 VOUT2 (power) "Output voltage of regulator 2", 14 VSENSE2 (in) "Regulator 2 output voltage sense", 15 PG2 (hiz) "Open drain output, low when VOUT2 voltage is less than 95% of the nominal regulated voltage", 16 PG1 (hiz) "Open drain output, low when VOUT1 voltage is less than 95% of the nominal regulated voltage", 17 VSENSE1 (in) "Regulator 1 output voltage sense", 18 VOUT1 (power) "Output voltage of regulator 1", 19 VOUT1 (power) "Output voltage of regulator 1", 20 NC "No connection", 21 EP "Thermal pad"

## TPS70302PWP
designator U?
Dual Output LDO, 1 A, Adjustable 1.22 to 5.5 V Output, 2.7 to 6 V Input, with Power-Up Sequencing, 24-pin HTSSOP (PWP), -40 to 125 degC, Green (RoHS & no Sb/Br); Manufacturer: Texas Instruments; PartNumber: TPS70302PWP; Iout(Max)(A): 1; Iout2(A): 2; Iq(Typ)(mA): 0.18; SubFamily: Dual Channel LDO; Vdo(Typ)(mV): 160; Vin(Max)(V): 6; Vin(Min)(V): 2.7; Vout2(Max)(V): 5.5; Vout2(Min)(V): 1.2; DatasheetVersion: SLVS285H; PackageVersion: 4073225-5/I; PackageReference: PWP24-4210X2010TP; PackageDescription: 24-Pin Plastic Small Outline, Body 4.4 x 7.8 mm, Pitch 0.65 mm; Supplier 1: Digi-Key; Supplier Part Number 1: 296-8021-5-ND; Supplier 2: Farnell; Supplier Part Number 2: 1470473; Supplier 3: Newark; Supplier Part Number 3: 73K4045; Supplier 4: Mouser; Supplier Part Number 4: 595-TPS70302PWP; Eco-Plan: Green (RoHS & no Sb/Br); Mounting Technology: Surface Mount; Code_JEDEC: MO-153; ComponentLink1Description: Manufacturer URL; ComponentLink1URL: http://www.ti.com/; ComponentLink2Description: Datasheet; ComponentLink2URL: http://www.ti.com/general/docs/lit/getliterature.tsp?genericPartNumber=TPS70302&fileType=pdf; ComponentLink3Description: Package Specification; ComponentLink3URL: http://www.ti.com/litv/pdf/mpds372
footprint TI-PWP24-4210X2010TP_N (SOP, 24-Leads, Body 7.8x4.4mm, Pitch 0.65mm, Thermal Pad 4.205X2.005mm, IPC Medium Density)
footprint TI-PWP24-4210X2010TP_L (SOP, 24-Leads, Body 7.8x4.4mm, Pitch 0.65mm, Thermal Pad 4.205X2.005mm, IPC High Density)
footprint TI-PWP24-4210X2010TP_M (SOP, 24-Leads, Body 7.8x4.4mm, Pitch 0.65mm, Thermal Pad 4.205X2.005mm, IPC Low Density)
part A pins: 2 VIN1 (power) "Input voltage of regulator 1", 3 VIN1 (power) "Input voltage of regulator 1", 4 NC "No connection", 5 ~{MR2} (in) "Manual reset input 2, active low, pulled up internally", 6 ~{MR1} (in) "Manual reset input 1, active low, pulled up internally", 7 ~{EN} (in) "Active low enable", 8 SEQ (in) "Power-up sequence control: SEQ = High, VOUT2 powers up first; SEQ = Low, VOUT1 powers up first. SEQ terminal pulled up internally.", 10 VIN2 (power) "Input voltage of regulator 2", 11 VIN2 (power) "Input voltage of regulator 2", 14 VOUT2 (power) "Output voltage of regulator 2", 15 VOUT2 (power) "Output voltage of regulator 2", 16 FB2 (in) "regulator 2 feedback for adjustable", 17 NC "No connection", 18 ~{RESET} (hiz) "Open drain output, SVS (power-on reset) signal, active low", 19 PG1 (hiz) "Open drain output, low when VOUT1 voltage is less than 95% of the nominal regulated voltage", 20 NC "No connection", 21 FB1 (in) "regulator 1 feedback for adjustable", 22 VOUT1 (power) "Output voltage of regulator 1", 23 VOUT1 (power) "Output voltage of regulator 1"
part B pins: 1 GND/HEATSINK (power) "Ground/heatsink", 9 GND (power) "Regulator ground", 12 GND/HEATSINK (power) "Ground/heatsink", 13 GND/HEATSINK (power) "Ground/heatsink", 24 GND/HEATSINK (power) "Ground/heatsink", 25 EP (power) "Expoeed Thermal Pad"

## TPS70302PWPG4
designator U?
Dual Output LDO, 1 A, Adjustable 1.22 to 5.5 V Output, 2.7 to 6 V Input, with Power-Up Sequencing, 24-pin HTSSOP (PWP), -40 to 125 degC, Green (RoHS & no Sb/Br); Manufacturer: Texas Instruments; PartNumber: TPS70302PWPG4; Iout(Max)(A): 1; Iout2(A): 2; Iq(Typ)(mA): 0.18; SubFamily: Dual Channel LDO; Vdo(Typ)(mV): 160; Vin(Max)(V): 6; Vin(Min)(V): 2.7; Vout2(Max)(V): 5.5; Vout2(Min)(V): 1.2; DatasheetVersion: SLVS285H; PackageVersion: 4073225-5/I; PackageReference: PWP24-4210X2010TP; PackageDescription: 24-Pin Plastic Small Outline, Body 4.4 x 7.8 mm, Pitch 0.65 mm; Supplier 1: Digi-Key; Supplier Part Number 1: TPS70302PWPG4-ND; Supplier 2: Newark; Supplier Part Number 2: 67K8653; Supplier 3: Mouser; Supplier Part Number 3: 595-TPS70302PWPG4; Eco-Plan: Green (RoHS & no Sb/Br); Mounting Technology: Surface Mount; Code_JEDEC: MO-153; ComponentLink1Description: Manufacturer URL; ComponentLink1URL: http://www.ti.com/; ComponentLink2Description: Datasheet; ComponentLink2URL: http://www.ti.com/general/docs/lit/getliterature.tsp?genericPartNumber=TPS70302&fileType=pdf; ComponentLink3Description: Package Specification; ComponentLink3URL: http://www.ti.com/litv/pdf/mpds372
footprint TI-PWP24-4210X2010TP_N (SOP, 24-Leads, Body 7.8x4.4mm, Pitch 0.65mm, Thermal Pad 4.205X2.005mm, IPC Medium Density)
footprint TI-PWP24-4210X2010TP_L (SOP, 24-Leads, Body 7.8x4.4mm, Pitch 0.65mm, Thermal Pad 4.205X2.005mm, IPC High Density)
footprint TI-PWP24-4210X2010TP_M (SOP, 24-Leads, Body 7.8x4.4mm, Pitch 0.65mm, Thermal Pad 4.205X2.005mm, IPC Low Density)
part A pins: 2 VIN1 (power) "Input voltage of regulator 1", 3 VIN1 (power) "Input voltage of regulator 1", 4 NC "No connection", 5 ~{MR2} (in) "Manual reset input 2, active low, pulled up internally", 6 ~{MR1} (in) "Manual reset input 1, active low, pulled up internally", 7 ~{EN} (in) "Active low enable", 8 SEQ (in) "Power-up sequence control: SEQ = High, VOUT2 powers up first; SEQ = Low, VOUT1 powers up first. SEQ terminal pulled up internally.", 10 VIN2 (power) "Input voltage of regulator 2", 11 VIN2 (power) "Input voltage of regulator 2", 14 VOUT2 (power) "Output voltage of regulator 2", 15 VOUT2 (power) "Output voltage of regulator 2", 16 FB2 (in) "regulator 2 feedback for adjustable", 17 NC "No connection", 18 ~{RESET} (hiz) "Open drain output, SVS (power-on reset) signal, active low", 19 PG1 (hiz) "Open drain output, low when VOUT1 voltage is less than 95% of the nominal regulated voltage", 20 NC "No connection", 21 FB1 (in) "regulator 1 feedback for adjustable", 22 VOUT1 (power) "Output voltage of regulator 1", 23 VOUT1 (power) "Output voltage of regulator 1"
part B pins: 1 GND/HEATSINK (power) "Ground/heatsink", 9 GND (power) "Regulator ground", 12 GND/HEATSINK (power) "Ground/heatsink", 13 GND/HEATSINK (power) "Ground/heatsink", 24 GND/HEATSINK (power) "Ground/heatsink", 25 EP (power) "Expoeed Thermal Pad"

## TPS70302PWPR
designator U?
Dual Output LDO, 1 A, Adjustable 1.22 to 5.5 V Output, 2.7 to 6 V Input, with Power-Up Sequencing, 24-pin HTSSOP (PWP), -40 to 125 degC, Green (RoHS & no Sb/Br); Manufacturer: Texas Instruments; PartNumber: TPS70302PWPR; Iout(Max)(A): 1; Iout2(A): 2; Iq(Typ)(mA): 0.18; SubFamily: Dual Channel LDO; Vdo(Typ)(mV): 160; Vin(Max)(V): 6; Vin(Min)(V): 2.7; Vout2(Max)(V): 5.5; Vout2(Min)(V): 1.2; DatasheetVersion: SLVS285H; PackageVersion: 4073225-5/I; PackageReference: PWP24-4210X2010TP; PackageDescription: 24-Pin Plastic Small Outline, Body 4.4 x 7.8 mm, Pitch 0.65 mm; Supplier 1: Digi-Key; Supplier Part Number 1: 296-27040-2-ND; Supplier 2: Digi-Key; Supplier Part Number 2: 296-27040-1-ND; Supplier 3: Digi-Key; Supplier Part Number 3: 296-27040-6-ND; Supplier 4: Newark; Supplier Part Number 4: 77C0760; Supplier 5: Mouser; Supplier Part Number 5: 595-TPS70302PWPR; Eco-Plan: Green (RoHS & no Sb/Br); Mounting Technology: Surface Mount; Code_JEDEC: MO-153; ComponentLink1Description: Manufacturer URL; ComponentLink1URL: http://www.ti.com/; ComponentLink2Description: Datasheet; ComponentLink2URL: http://www.ti.com/general/docs/lit/getliterature.tsp?genericPartNumber=TPS70302&fileType=pdf; ComponentLink3Description: Package Specification; ComponentLink3URL: http://www.ti.com/litv/pdf/mpds372
footprint TI-PWP24-4210X2010TP_N (SOP, 24-Leads, Body 7.8x4.4mm, Pitch 0.65mm, Thermal Pad 4.205X2.005mm, IPC Medium Density)
footprint TI-PWP24-4210X2010TP_L (SOP, 24-Leads, Body 7.8x4.4mm, Pitch 0.65mm, Thermal Pad 4.205X2.005mm, IPC High Density)
footprint TI-PWP24-4210X2010TP_M (SOP, 24-Leads, Body 7.8x4.4mm, Pitch 0.65mm, Thermal Pad 4.205X2.005mm, IPC Low Density)
part A pins: 2 VIN1 (power) "Input voltage of regulator 1", 3 VIN1 (power) "Input voltage of regulator 1", 4 NC "No connection", 5 ~{MR2} (in) "Manual reset input 2, active low, pulled up internally", 6 ~{MR1} (in) "Manual reset input 1, active low, pulled up internally", 7 ~{EN} (in) "Active low enable", 8 SEQ (in) "Power-up sequence control: SEQ = High, VOUT2 powers up first; SEQ = Low, VOUT1 powers up first. SEQ terminal pulled up internally.", 10 VIN2 (power) "Input voltage of regulator 2", 11 VIN2 (power) "Input voltage of regulator 2", 14 VOUT2 (power) "Output voltage of regulator 2", 15 VOUT2 (power) "Output voltage of regulator 2", 16 FB2 (in) "regulator 2 feedback for adjustable", 17 NC "No connection", 18 ~{RESET} (hiz) "Open drain output, SVS (power-on reset) signal, active low", 19 PG1 (hiz) "Open drain output, low when VOUT1 voltage is less than 95% of the nominal regulated voltage", 20 NC "No connection", 21 FB1 (in) "regulator 1 feedback for adjustable", 22 VOUT1 (power) "Output voltage of regulator 1", 23 VOUT1 (power) "Output voltage of regulator 1"
part B pins: 1 GND/HEATSINK (power) "Ground/heatsink", 9 GND (power) "Regulator ground", 12 GND/HEATSINK (power) "Ground/heatsink", 13 GND/HEATSINK (power) "Ground/heatsink", 24 GND/HEATSINK (power) "Ground/heatsink", 25 EP (power) "Expoeed Thermal Pad"

## TPS70302PWPRG4
designator U?
Dual Output LDO, 1 A, Adjustable 1.22 to 5.5 V Output, 2.7 to 6 V Input, with Power-Up Sequencing, 24-pin HTSSOP (PWP), -40 to 125 degC, Green (RoHS & no Sb/Br); Manufacturer: Texas Instruments; PartNumber: TPS70302PWPRG4; Iout(Max)(A): 1; Iout2(A): 2; Iq(Typ)(mA): 0.18; SubFamily: Dual Channel LDO; Vdo(Typ)(mV): 160; Vin(Max)(V): 6; Vin(Min)(V): 2.7; Vout2(Max)(V): 5.5; Vout2(Min)(V): 1.2; DatasheetVersion: SLVS285H; PackageVersion: 4073225-5/I; PackageReference: PWP24-4210X2010TP; PackageDescription: 24-Pin Plastic Small Outline, Body 4.4 x 7.8 mm, Pitch 0.65 mm; Supplier 1: Digi-Key; Supplier Part Number 1: TPS70302PWPRG4-ND; Supplier 2: Newark; Supplier Part Number 2: 54K1760; Supplier 3: Mouser; Supplier Part Number 3: 595-TPS70302PWPRG4; Eco-Plan: Green (RoHS & no Sb/Br); Mounting Technology: Surface Mount; Code_JEDEC: MO-153; ComponentLink1Description: Manufacturer URL; ComponentLink1URL: http://www.ti.com/; ComponentLink2Description: Datasheet; ComponentLink2URL: http://www.ti.com/general/docs/lit/getliterature.tsp?genericPartNumber=TPS70302&fileType=pdf; ComponentLink3Description: Package Specification; ComponentLink3URL: http://www.ti.com/litv/pdf/mpds372
footprint TI-PWP24-4210X2010TP_N (SOP, 24-Leads, Body 7.8x4.4mm, Pitch 0.65mm, Thermal Pad 4.205X2.005mm, IPC Medium Density)
footprint TI-PWP24-4210X2010TP_L (SOP, 24-Leads, Body 7.8x4.4mm, Pitch 0.65mm, Thermal Pad 4.205X2.005mm, IPC High Density)
footprint TI-PWP24-4210X2010TP_M (SOP, 24-Leads, Body 7.8x4.4mm, Pitch 0.65mm, Thermal Pad 4.205X2.005mm, IPC Low Density)
part A pins: 2 VIN1 (power) "Input voltage of regulator 1", 3 VIN1 (power) "Input voltage of regulator 1", 4 NC "No connection", 5 ~{MR2} (in) "Manual reset input 2, active low, pulled up internally", 6 ~{MR1} (in) "Manual reset input 1, active low, pulled up internally", 7 ~{EN} (in) "Active low enable", 8 SEQ (in) "Power-up sequence control: SEQ = High, VOUT2 powers up first; SEQ = Low, VOUT1 powers up first. SEQ terminal pulled up internally.", 10 VIN2 (power) "Input voltage of regulator 2", 11 VIN2 (power) "Input voltage of regulator 2", 14 VOUT2 (power) "Output voltage of regulator 2", 15 VOUT2 (power) "Output voltage of regulator 2", 16 FB2 (in) "regulator 2 feedback for adjustable", 17 NC "No connection", 18 ~{RESET} (hiz) "Open drain output, SVS (power-on reset) signal, active low", 19 PG1 (hiz) "Open drain output, low when VOUT1 voltage is less than 95% of the nominal regulated voltage", 20 NC "No connection", 21 FB1 (in) "regulator 1 feedback for adjustable", 22 VOUT1 (power) "Output voltage of regulator 1", 23 VOUT1 (power) "Output voltage of regulator 1"
part B pins: 1 GND/HEATSINK (power) "Ground/heatsink", 9 GND (power) "Regulator ground", 12 GND/HEATSINK (power) "Ground/heatsink", 13 GND/HEATSINK (power) "Ground/heatsink", 24 GND/HEATSINK (power) "Ground/heatsink", 25 EP (power) "Expoeed Thermal Pad"

## TPS70345MPWPREP
designator U?
Dual Output LDO, 1 A, Fixed 3.3, 1.2 V Output, 2.7 to 6 V Input, with Power-Up Sequencing, 24-pin HTSSOP (PWP), -55 to 125 degC, Green (RoHS & no Sb/Br); Manufacturer: Texas Instruments; PartNumber: TPS70345MPWPREP; Iout(Max)(A): 1; Iout2(A): 2; Iq(Typ)(mA): 0.18; SubFamily: Dual Channel LDO; Vdo(Typ)(mV): 160; Vin(Max)(V): 6; Vin(Min)(V): 2.7; Vout(Max)(V): 1.2; DatasheetVersion: SGLS323A; PackageVersion: 4073225-5/I; PackageReference: PWP24-2010X4210TP; PackageDescription: 24-Pin Plastic Small Outline, Body 4.4 x 7.8 mm, Pitch 0.65 mm; Supplier 1: Digi-Key; Supplier Part Number 1: 296-21274-2-ND; Supplier 2: Digi-Key; Supplier Part Number 2: 296-21274-1-ND; Supplier 3: Digi-Key; Supplier Part Number 3: 296-21274-6-ND; Supplier 4: Newark; Supplier Part Number 4: 46M1135; Supplier 5: Mouser; Supplier Part Number 5: 595-TPS70345MPWPREP; Eco-Plan: Green (RoHS & no Sb/Br); Fixed Output Options(V): 3.3, 1.2; Vout(Min)(V): 1.2; Mounting Technology: Surface Mount; Code_JEDEC: MO-153; ComponentLink1Description: Manufacturer URL; ComponentLink1URL: http://www.ti.com/; ComponentLink2Description: Datasheet; ComponentLink2URL: http://www.ti.com/general/docs/lit/getliterature.tsp?genericPartNumber=TPS70345-EP&fileType=pdf; ComponentLink3Description: Package Specification; ComponentLink3URL: http://www.ti.com/litv/pdf/mpds372
footprint TI-PWP24-2010X4210TP_N (SOP, 24-Leads, Body 7.8x4.4mm, Pitch 0.65mm, Thermal Pad 2010X4210mm, IPC Medium Density)
footprint TI-PWP24-2010X4210TP_L (SOP, 24-Leads, Body 7.8x4.4mm, Pitch 0.65mm, Thermal Pad 2010X4210mm, IPC High Density)
footprint TI-PWP24-2010X4210TP_M (SOP, 24-Leads, Body 7.8x4.4mm, Pitch 0.65mm, Thermal Pad 2010X4210mm, IPC Low Density)
part A pins: 2 VIN1 (power) "Input voltage of regulator 1", 3 VIN1 (power) "Input voltage of regulator 1", 4 NC "No connection", 5 ~{MR2} (in) "Manual reset input 2, active low, pulled up internally", 6 ~{MR1} (in) "Manual reset input 1, active low, pulled up internally", 7 ~{EN} (in) "Active low enable", 8 SEQ (in) "Power-up sequence control: SEQ = High, VOUT2 powers up first; SEQ = Low, VOUT1 powers up first. SEQ terminal pulled up internally.", 10 VIN2 (power) "Input voltage of regulator 2", 11 VIN2 (power) "Input voltage of regulator 2", 14 VOUT2 (power) "Output voltage of regulator 2", 15 VOUT2 (power) "Output voltage of regulator 2", 16 VSENSE2 (in) "Regulator 2 output voltage sense", 17 NC "No connection", 18 ~{RESET} (hiz) "Open drain output, SVS (power-on reset) signal, active low", 19 PG1 (hiz) "Open drain output, low when VOUT1 voltage is less than 95% of the nominal regulated voltage", 20 NC "No connection", 21 VSENSE1 (in) "Regulator 1 output voltage sense", 22 VOUT1 (power) "Output voltage of regulator 1", 23 VOUT1 (power) "Output voltage of regulator 1"
part B pins: 1 GND/HEATSINK (power) "Ground/heatsink", 9 GND (power) "Regulator ground", 12 GND/HEATSINK (power) "Ground/heatsink", 13 GND/HEATSINK (power) "Ground/heatsink", 24 GND/HEATSINK (power) "Ground/heatsink", 25 EP (power) "Expoeed Thermal Pad"